# Altium schematic symbol library Texas_Instruments_LM5060Q1MM_NOPB.SchLib: 1 symbol
Pins are listed as number, name and electrical type; pins without a type are passive.

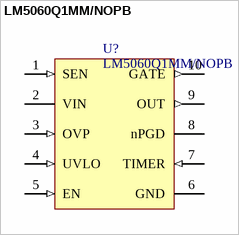
[diagram p0: symbol LM5060Q1MM/NOPB]

## LM5060Q1MM/NOPB
designator U?
High-Side Protection Controller with Low Quiescent Current, 10-pin MSOP, Pb-Free; Manufacturer: National Semiconductor; PackageTopMarking: ZXTT*SZAB; High-Reliability: Y; CompType: Switcher; ComponentLink4Description: MUB10A Package Page; PartNumber: LM5060Q1MM/NOPB; ComponentLink1Description: Manufacturer URL; ComponentLink2Description: LM5060 Datasheet; DatasheetVersion: Dec-2010; ComponentLink3URL: http://www.national.com/pf/LM/LM5060.html; ComponentLink1URL: http://www.national.com/; Code_JEDEC: MO-187-BA; RevisionNote: PowerWise parameter updated.; ComponentLink4URL: http://www.national.com/packaging/folders/mub10a.html; PackageReference: MUB10A; ComponentLink3Description: LM5060 Web Page; PackageVersion: revB, Jul-2003; RoHS: Y; PinCount: 10; ComponentLink2URL: http://www.national.com/ds/LM/LM5060.pdf; PowerWise: Y; PackageDescription: Mini-SO, Molded, .118 x .118 x .034in Body, 10 Lead, .0197in Pitch
footprint MUB10A_N
footprint MUB10A_M
footprint MUB10A_L
pins: 1 SEN (in), 2 VIN (power), 3 OVP (in), 4 UVLO (in), 5 EN (in), 6 GND (power), 7 TIMER (in), 8 nPGD (oc), 9 OUT (out), 10 GATE (out)